# EAGLE library part ILD4001 (library mod_eagle_library_pmic)
ILD4001 hysteretic buck LED controller ID
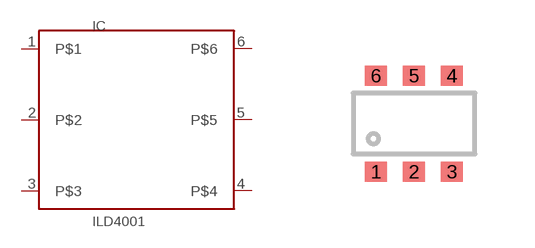
[diagram p1: symbol with the pads of SC74; footprint SC74]

Designator prefix IC

## ILD4001  [SC74]
1  P$1
2  P$2
3  P$3
4  P$4
5  P$5
6  P$6

## Footprint SC74 (pad centres in mm)
SC74 recommended pcb footpring for reflow soldering
smd 0.55 x 0.5: 1 -0.95,-1.2; 2 0,-1.2; 3 0.95,-1.2; 4 0.95,1.2; 5 0,1.2; 6 -0.95,1.2